# Altium schematic symbol library EL-sense_Switching_Voltage_Regulators.SchLib: 18 symbols
Pins are listed as number, name and electrical type; pins without a type are passive.

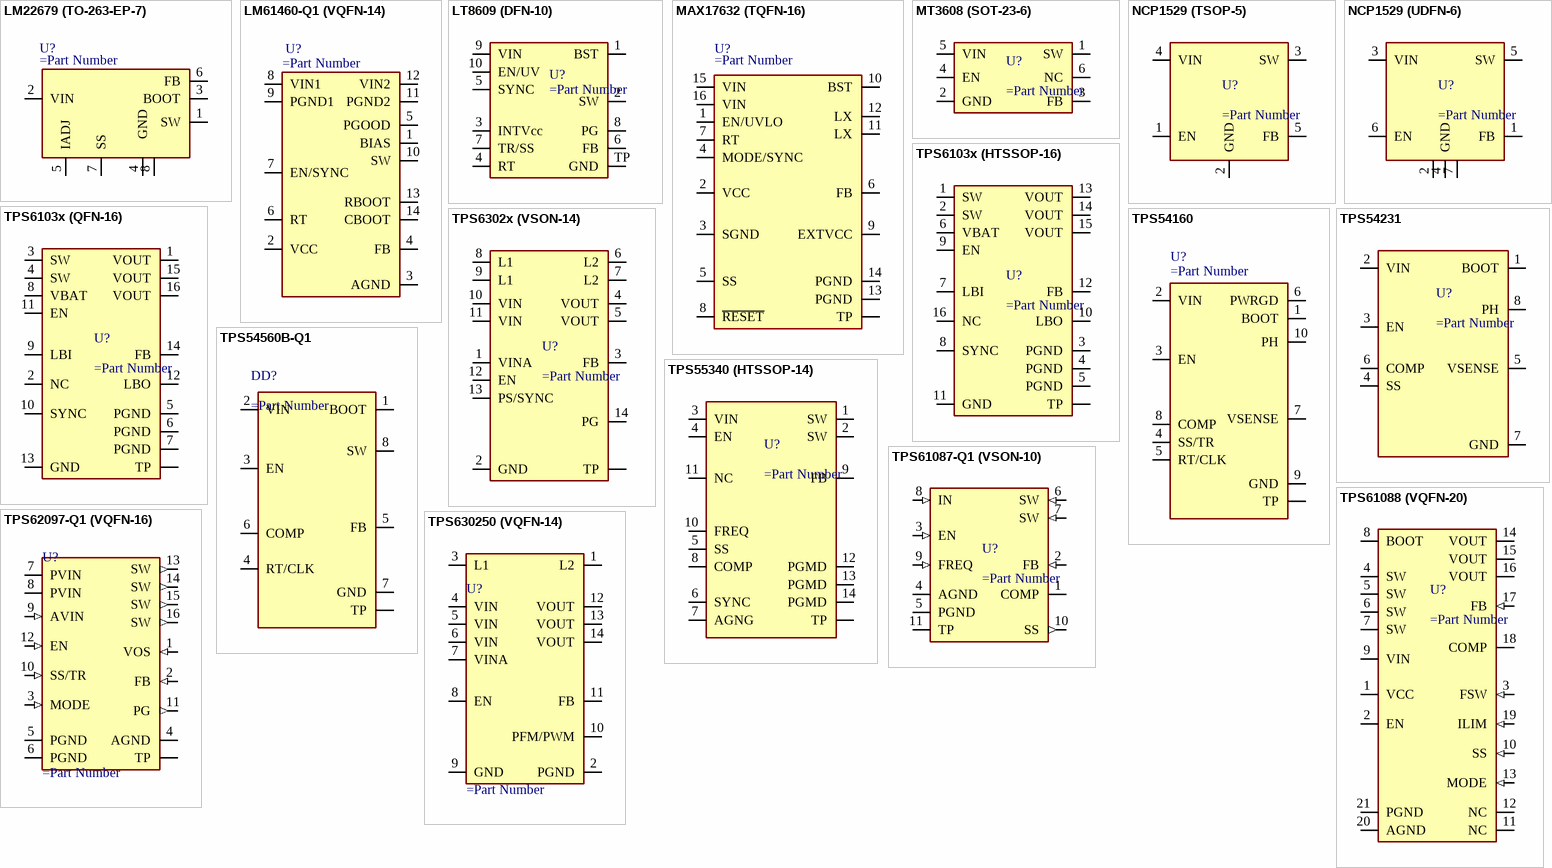
[diagram p0: symbols LM22679 (TO-263-EP-7) to TPS630250 (VQFN-14)]

## LM22679 (TO-263-EP-7)
designator U?
pins: 1 SW, 2 VIN, 3 BOOT, 4    GND, 5 IADJ, 6 FB, 7 SS, 8 GND

## LM61460-Q1 (VQFN-14)
designator U?
pins: 1 BIAS, 2 VCC, 3 AGND, 4 FB, 5 PGOOD, 6 RT, 7 EN/SYNC, 8 VIN1, 9 PGND1, 10 SW, 11 PGND2, 12 VIN2, 13 RBOOT, 14 CBOOT

## LT8609 (DFN-10)
designator U?
pins: 1 BST, 2 SW, 3 INTVcc, 4 RT, 5 SYNC, 6 FB, 7 TR/SS, 8 PG, 9 VIN, 10 EN/UV, TP GND

## MAX17632 (TQFN-16)
designator U?
pins: 1 EN/UVLO, 2 VCC (power), 3 SGND, 4 MODE/SYNC, 5 SS, 6 FB, 7 RT, 8 ~{RESET}, 9 EXTVCC, 10 BST, 11 LX, 12 LX, 13 PGND, 14 PGND, 15 VIN, 16 VIN, TP

## MT3608 (SOT-23-6)
designator U?
pins: 1 SW, 2 GND, 3 FB, 4 EN, 5 VIN, 6 NC

## NCP1529 (TSOP-5)
designator U?
pins: 1 EN, 2 GND, 3 SW, 4 VIN, 5 FB

## NCP1529 (UDFN-6)
designator U?
pins: 1 FB, 2    GND, 3 VIN, 4 GND, 5 SW, 6 EN, 7 GND

## TPS6103x (HTSSOP-16)
designator U?
pins: 1 SW, 2 SW, 3 PGND, 4 PGND, 5 PGND, 6 VBAT, 7 LBI, 8 SYNC, 9 EN, 10 LBO, 11 GND, 12 FB, 13 VOUT, 14 VOUT, 15 VOUT, 16 NC, TP

## TPS6103x (QFN-16)
designator U?
pins: 1 VOUT, 2 NC, 3 SW, 4 SW, 5 PGND, 6 PGND, 7 PGND, 8 VBAT, 9 LBI, 10 SYNC, 11 EN, 12 LBO, 13 GND, 14 FB, 15 VOUT, 16 VOUT, TP

## TPS6302x (VSON-14)
designator U?
pins: 1 VINA, 2 GND, 3 FB, 4 VOUT, 5 VOUT, 6 L2, 7 L2, 8 L1, 9 L1, 10 VIN, 11 VIN, 12 EN, 13 PS/SYNC, 14 PG, TP

## TPS54160
designator U?
pins: 1 BOOT, 2 VIN, 3 EN, 4 SS/TR, 5 RT/CLK, 6 PWRGD, 7 VSENSE, 8 COMP, 9 GND, 10 PH, TP

## TPS54231
designator U?
pins: 1 BOOT, 2 VIN, 3 EN, 4 SS, 5 VSENSE, 6 COMP, 7 GND, 8 PH

## TPS54560B-Q1
designator DD?
pins: 1 BOOT, 2 VIN, 3 EN, 4 RT/CLK, 5 FB, 6 COMP, 7 GND, 8 SW, TP

## TPS55340 (HTSSOP-14)
designator U?
pins: 1 SW, 2 SW, 3 VIN, 4 EN, 5 SS, 6 SYNC, 7 AGNG, 8 COMP, 9 FB, 10 FREQ, 11 NC, 12 PGMD, 13 PGMD, 14 PGMD, TP

## TPS61087-Q1 (VSON-10)
designator U?
pins: 1 COMP (io), 2 FB (in), 3 EN (in), 4 AGND (power), 5 PGND (power), 6 SW (in), 7 SW (in), 8 IN (in), 9 FREQ (in), 10 SS (out), 11 TP (power)

## TPS61088 (VQFN-20)
designator U?
pins: 1 VCC, 2 EN, 3 FSW (in), 4 SW, 5 SW, 6 SW, 7 SW, 8 BOOT, 9 VIN, 10 SS (in), 11 NC, 12 NC, 13 MODE (in), 14 VOUT, 15 VOUT, 16 VOUT, 17 FB (in), 18 COMP, 19 ILIM (in), 20 AGND, 21 PGND

## TPS62097-Q1 (VQFN-16)
designator U?
pins: 1 VOS (in), 2 FB (in), 3 MODE (in), 4 AGND (power), 5 PGND (power), 6 PGND (power), 7 PVIN (power), 8 PVIN (power), 9 AVIN (in), 10 SS/TR (in), 11 PG (out), 12 EN (in), 13 SW (out), 14 SW (out), 15 SW (out), 16 SW (out), TP (power)

## TPS630250 (VQFN-14)
designator U?
pins: 1 L2, 2 PGND, 3 L1, 4 VIN, 5 VIN, 6 VIN, 7 VINA, 8 EN, 9 GND, 10 PFM/PWM, 11 FB, 12 VOUT, 13 VOUT, 14 VOUT